# Altium footprint library diode.PCBLIB: 206 footprints (part 10 of 13)
Each footprint in its own frame and in the unit in brackets; x right, y up, seen from the top. Pads: shape width x height; smd on the part's side, far side on the other; paste and mask are expansions set on the pad; w line width, h text height; cw(c..) or ccw(c..) is an arc to the next point about the centre after c.
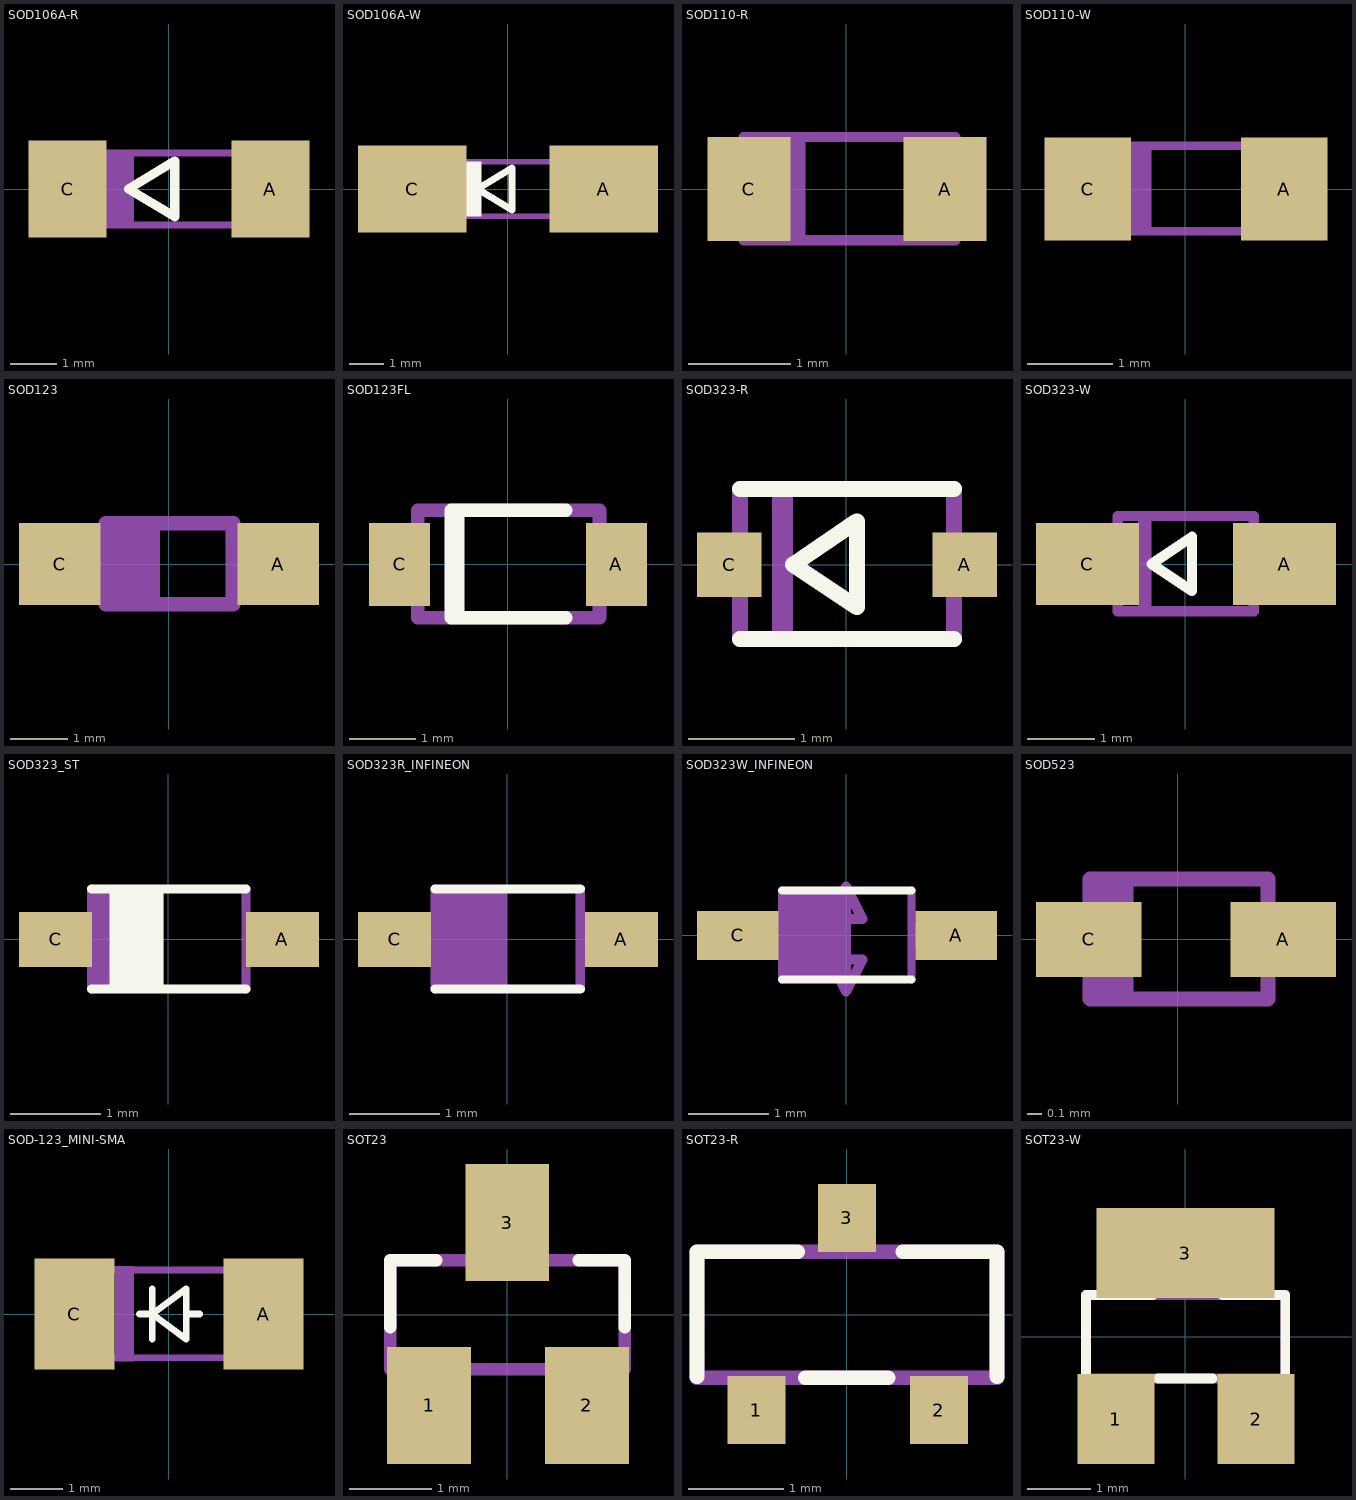
[diagram p9: the footprints below, top view; thin cyan lines are the x and y axes]

## SOD106A-R [mil]
pads (2):
  rect 67x83 smd: A(87,0) C(-86.61,0)
Top Overlay:
  lines w8: -34.37,0 5,24 5,-23.62 -34.37,0
Mechanical 2:
  text ">NAME" at -93.46,51 h77.5
Mechanical 4:
  text ">VALUE" at -93.46,-98.94 h77.5
Mechanical 16:
  rectangle: -92.69,-34 -70.69,34
  rectangle: 71,-34 93,34
  rectangle: -53.69,-31 -29.68,31
  lines w6: -71.69,-31 72,-31 ; -71.69,31 72,31

## SOD106A-W [mil]
pads (2):
  rect 123x99 smd: A(109,0) C(-108.27,0)
Top Overlay:
  rectangle: -53.69,-31 -29.68,31
  lines w8: -34.37,0 5,24 5,-23.62 -34.37,0
Mechanical 2:
  text ">NAME" at -132.83,71 h77.5
Mechanical 4:
  text ">VALUE" at -130.87,-124.53 h77.5
Mechanical 16:
  rectangle: -92.69,-34 -70.69,34
  rectangle: 71,-34 93,34
  lines w6: -71.69,-31 72,-31 ; -71.69,31 72,31

## SOD110-R [mil]
pads (2):
  rect 32x40 smd: A(38,0) C(-37.4,0)
Mechanical 2:
  text ">NAME" at -60,45 h77.5
Mechanical 4:
  text ">VALUE" at -60,-95 h77.5
Mechanical 16:
  rectangle: -25.59,-17.72 -15.75,18
  lines w4: -39.37,-19.68 42,-19.68 42,20 -39.37,20 -39.37,-19.68

## SOD110-W [mil]
pads (2):
  rect 40x48 smd: A(46,0) C(-45.28,0)
Mechanical 2:
  text ">NAME" at -60,45 h77.5
Mechanical 4:
  text ">VALUE" at -60,-95 h77.5
Mechanical 16:
  rectangle: -25.59,-17.72 -15.75,18
  lines w4: -39.37,-19.68 42,-19.68 42,20 -39.37,20 -39.37,-19.68

## SOD123 [mil]
pads (2):
  rect 56x56 smd: A(75,0) C(-74.8,0)
Mechanical 2:
  text ">NAME" at -43.31,40 h77.5
Mechanical 4:
  text ">VALUE" at -43.31,-90.55 h77.5
Mechanical 16:
  rectangle: -76.77,-17.72 -47.24,16
  rectangle: 48,-17.72 77,16
  rectangle: -41.34,-25.59 -5.91,28
  lines w10: -43.31,-27.56 44,-27.56 44,28 -43.31,28 -43.31,-27.56

## SOD123FL [mil]
pads (2):
  rect 36x49 smd: A(64,0) C(-63.98,0)
Top Overlay:
  rectangle: -37.4,-30.51 -25.59,32
  lines w8: -33.46,-31.5 34,-31.5 ; -33.46,32 34,32
Mechanical 2:
  text ">NAME" at -78.74,40 h77.5
Mechanical 4:
  text ">VALUE" at -78.74,-98.43 h77.5
Mechanical 16:
  rectangle: -70.87,-21.65 -56.1,22
  region: 71,22 57,22 57,-21.65 71,-21.65
  lines w8: -53.15,-31.5 54,-31.5 54,32 -53.15,32 -53.15,-31.5

## SOD323-R [mil]
pads (2):
  rect 24x24 smd: A(44,0) C(-43.31,0)
Top Overlay:
  lines w6: -39.37,-27.56 40,-27.56 ; -39.37,28 40,28 ; -19.68,0 4,16 4,-15.75 -19.68,0
Mechanical 2:
  text ">NAME" at -43.31,40 h77.5
Mechanical 4:
  text ">VALUE" at -43.31,-90.55 h77.5
Mechanical 16:
  rectangle: -27.56,-27.56 -19.68,28
  lines w6: -39.37,-27.56 -39.37,28 ; 40,-27.56 40,28

## SOD323-W [mil]
pads (2):
  rect 60x48 smd: A(58,0) C(-57.09,0)
Top Overlay:
  lines w6: -19.68,0 4,16 4,-15.75 -19.68,0
Mechanical 2:
  text ">NAME" at -43.31,40 h77.5
Mechanical 4:
  text ">VALUE" at -43.31,-90.55 h77.5
Mechanical 16:
  rectangle: -27.56,-27.56 -19.68,28
  lines w6: -39.37,-27.56 40,-27.56 40,28 -39.37,28 -39.37,-27.56

## SOD323_ST [mil]
pads (2):
  rect 32x24 smd: A(50,0) C(-49.21,0)
Top Overlay:
  rectangle: -25.59,-21.65 -1.97,22
  lines w4: -33.46,-21.65 34,-21.65 ; -33.46,22 34,22
Mechanical 2:
  text ">NAME" at -64.96,30 h77.5
Mechanical 4:
  text ">VALUE" at -64.96,-78.74 h77.5
Mechanical 16:
  rectangle: -53.15,-5.91 -31.5,6
  rectangle: 32,-5.91 54,6
  rectangle: -33.46,-21.65 -1.97,22
  lines w4: -33.46,-21.65 -33.46,22 ; 34,-21.65 34,22

## SOD323R_INFINEON [mil]
pads (2):
  rect 32x24 smd: A(50,0) C(-49.21,0)
Top Overlay:
  lines w4: -31.5,-21.65 32,-21.65 ; -31.5,22 32,22
Mechanical 2:
  text ">NAME" at -64.96,30 h77.5
Mechanical 4:
  text ">VALUE" at -64.96,-78.74 h77.5
Mechanical 16:
  rectangle: -31.5,-21.65 0,22
  rectangle: -49.21,-5.91 -31.5,6
  rectangle: 32,-5.91 50,6
  lines w4: -31.5,-21.65 -31.5,22 ; 32,-21.65 32,22

## SOD323W_INFINEON [mil]
pads (2):
  rect 40x24 smd: A(54,0) C(-53.15,0)
Top Overlay:
  lines w4: -31.5,-21.65 32,-21.65 ; -31.5,22 32,22
Mechanical 2:
  text ">NAME" at -64.96,30 h77.5
Mechanical 4:
  text ">VALUE" at -64.96,-78.74 h77.5
Mechanical 13:
  lines w5: 0,-27.56 0,24 ; 0,-27.56 8,-11.81 -7.87,-11.81 0,-27.56 ; 0,24 -7.87,8 8,8 0,24
  text "direction of pcb" at 16,16 h15.5
  text "transportation for" at 16,-1.97 h15.5
  text "wavesoldering" at 16,-19.68 h15.5
Mechanical 16:
  rectangle: -31.5,-21.65 0,22
  rectangle: -49.21,-5.91 -31.5,6
  rectangle: 32,-5.91 50,6
  lines w4: -31.5,-21.65 -31.5,22 ; 32,-21.65 32,22

## SOD523 [mil]
pads (2):
  rect 28x20 smd: A(28,0) C(-23.62,0)
Mechanical 2:
  text ">NAME" at -25,25 h77.5
Mechanical 4:
  text ">VALUE" at -25,-75 h77.5
Mechanical 16:
  rectangle: -29.53,-6.69 -21.26,7
  rectangle: 22,-6.69 30,7
  rectangle: -23.23,-15.75 -11.81,16
  lines w4: -23.23,-15.75 24,-15.75 24,16 -23.23,16 -23.23,-15.75

## SOD-123_MINI-SMA [mil]
pads (2):
  rect 60x83 smd: A(71,0) C(-70.87,0)
Top Overlay:
  lines w5: -22.1,0 -12.5,0 ; -12.5,-18.75 -12.5,0 ; -12.5,19 -12.5,0 ; 23,0 13,0 ; -12.5,0 13,-18.75 13,0 ; -12.5,0 13,19 13,0
Mechanical 2:
  text ">NAME" at -120,45 h77.5
Mechanical 4:
  text ">VALUE" at -120,-95 h77.5
Mechanical 16:
  rectangle: -76.77,-35.43 -62.5,36
  rectangle: 63,-35.43 77,36
  rectangle: -40.35,-35.43 -26.08,36
  lines w5: -73.72,-32.87 74,-32.87 ; -73.72,33 74,33

## SOT23 [mil]
pads (3):
  rect 40x56 smd: 1(-37.4,-43.31) 2(38,-43.31) 3(0,44)
Top Overlay:
  lines w6: -56,-6 -56,26 -34,26 ; 34,26 56,26 56,-6
Mechanical 2:
  text ">NAME" at -75,75 h77.5
Mechanical 4:
  text ">VALUE" at -75,-125 h77.5
Mechanical 16:
  rectangle: -9,28 9,51
  rectangle: 28,-51 46,-28
  rectangle: -46,-51 -28,-28
  lines w6: -56,-26 56,-26 56,26 -56,26 -56,-26

## SOT23-R [mil]
pads (3):
  rect 24x28 smd: 1(-37.4,-39.37) 2(38,-39.37) 3(0,40)
Top Overlay:
  lines w6: -61.91,-25.68 -61.91,26 -20.22,26 ; -17.18,-26 17,-26 ; 23,26 62,26 62,-25.68
Mechanical 2:
  text ">NAME" at -75,75 h77.5
Mechanical 4:
  text ">VALUE" at -75,-125 h77.5
Mechanical 16:
  rectangle: -9,28 9,51
  rectangle: 28,-51 46,-28
  rectangle: -46,-51 -28,-28
  lines w6: -61.91,-26 62,-26 62,26 -61.91,26 -61.91,-26

## SOT23-W [mil]
pads (3):
  rect 48x56 smd: 1(-43.31,-51.18) 2(44,-51.18)
  rect 111x56 smd: 3(0,52)
Top Overlay:
  lines w6: -61.91,-25.68 -61.91,26 -20.22,26 ; -17.18,-26 17,-26 ; 23,26 62,26 62,-25.68
Mechanical 2:
  text ">NAME" at -75,75 h77.5
Mechanical 4:
  text ">VALUE" at -75,-125 h77.5
Mechanical 16:
  rectangle: -9,28 9,51
  rectangle: 28,-51 46,-28
  rectangle: -46,-51 -28,-28
  lines w6: -61.91,-26 62,-26 62,26 -61.91,26 -61.91,-26